# Altium footprint library RF Inductor Footprint.PcbLib: 1 footprints
Each footprint in its own frame and in the unit in brackets; x right, y up, seen from the top. Pads: shape width x height; smd on the part's side, far side on the other; paste and mask are expansions set on the pad; w line width, h text height; cw(c..) or ccw(c..) is an arc to the next point about the centre after c.
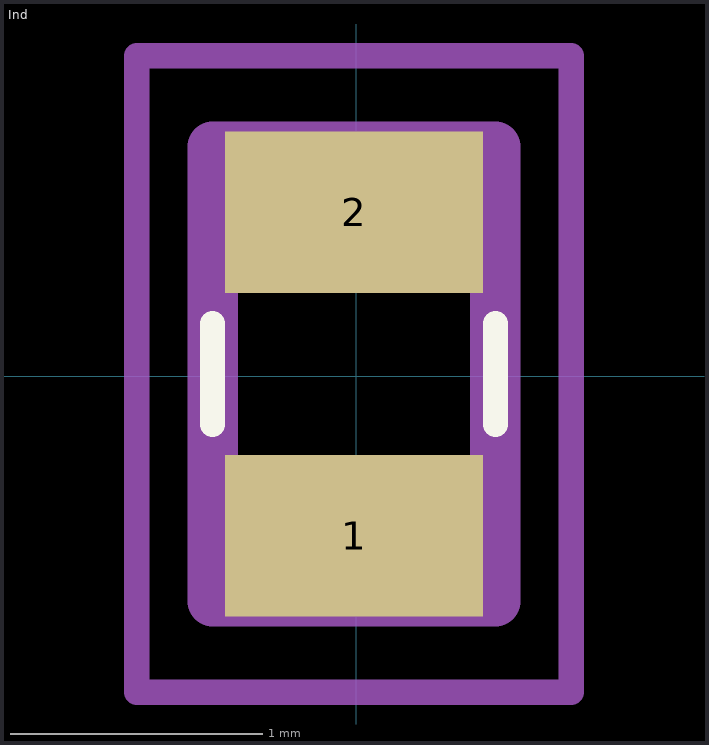
[diagram p0: the footprint, top view; thin cyan lines are the x and y axes]

## Ind [mm]
pads (2):
  rect 1.02x0.64 smd: 1(-0.008,-0.632) 2(-0.008,0.648)
Top Overlay:
  lines w0.1: -0.568,-0.192 -0.568,0.208 ; 0.552,-0.192 0.552,0.208
Top 3D Body:
  lines w0.2: -0.568,-0.892 -0.568,0.908 0.552,0.908 0.552,-0.892 -0.568,-0.892
Top Courtyard:
  lines w0.1: -0.868,-1.252 -0.868,1.268 0.852,1.268 0.852,-1.252 -0.868,-1.252
3D body "0603CS-18NXJLW.stp": height 1.02, standoff 0, extent -0.568,-0.892 0.552,0.908